# Altium schematic symbol library ACS756.SchLib: 2 symbols
Pins are listed as number, name and electrical type; pins without a type are passive.

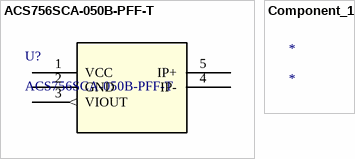
[diagram p0: symbols ACS756SCA-050B-PFF-T to Component_1]

## ACS756SCA-050B-PFF-T
designator U?
No Description Available; Vendor: Allegro Microsystems Inc.; Built_By: EMA_UL_Team; SourceLibrary: Allegro_2012-01-01; Manufacturer_Part_Number: ACS756SCA-050B-PFF-T; Copyright: Copyright (C) 2018 Accelerated Designs. All rights reserved; RefDes: RefDes; Type: DEV
footprint PFF-5_ALM
pins: 1 VCC (power), 2 GND (power), 3 VIOUT (out), 4 IP-, 5 IP+

## Component_1
designator *